# EAGLE library part ADAFRUIT_DEUTSCH_8PIN_STRAIGHT (library VIPR_Components)
DT15-08P
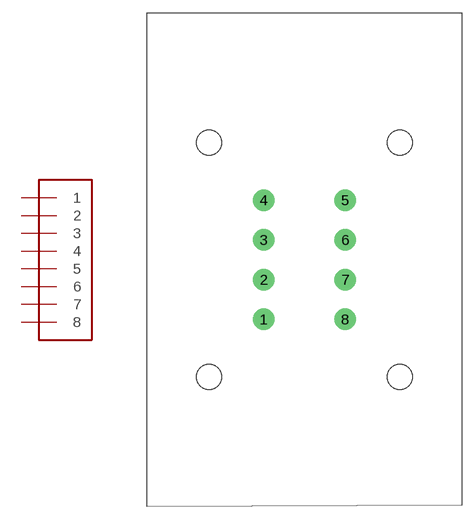
[diagram p5: symbol with the pads of ADAFRUIT_DEUTSCH_STRAIGHT_8PIN; footprint ADAFRUIT_DEUTSCH_STRAIGHT_8PIN]

Designator prefix -

## ADAFRUIT_DEUTSCH_8PIN_STRAIGHT  [ADAFRUIT_DEUTSCH_STRAIGHT_8PIN]
1  1  pas
2  2  pas
3  3  pas
4  4  pas
5  5  pas
6  6  pas
7  7  pas
8  8  pas

## Footprint ADAFRUIT_DEUTSCH_STRAIGHT_8PIN (pad centres in mm)
drill 1.6: 1 -4.559,-6.668; 2 -4.559,-2.223; 3 -4.559,2.223; 4 -4.559,6.668; 5 4.559,6.668; 6 4.559,2.223; 7 4.559,-2.223; 8 4.559,-6.668
hole 2.8 at -10.668,-13.094
hole 2.8 at -10.668,13.094
hole 2.8 at 10.668,13.094
hole 2.8 at 10.668,-13.094